# Altium schematic symbol library TP_1MM.SchLib: 1 symbol
Pins are listed as number, name and electrical type; pins without a type are passive.

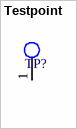
[diagram p0: symbol Testpoint]

## Testpoint
designator TP?
Testpoint
footprint TP_1mm
pins: 1 TP